# Altium schematic symbol library LED3mm.SchLib: 1 symbol
Pins are listed as number, name and electrical type; pins without a type are passive.

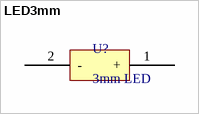
[diagram p0: symbol LED3mm]

## LED3mm
designator U?, comment 3mm LED
footprint led3mm (3mm LED); pin to pad 1>2 2>1
footprint LED (through hole LED)
pins: 1 +, 2 -